# Altium footprint library custom-case.PcbLib: 8 footprints
Each footprint in its own frame and in the unit in brackets; x right, y up, seen from the top. Pads: shape width x height; smd on the part's side, far side on the other; paste and mask are expansions set on the pad; w line width, h text height; cw(c..) or ccw(c..) is an arc to the next point about the centre after c.
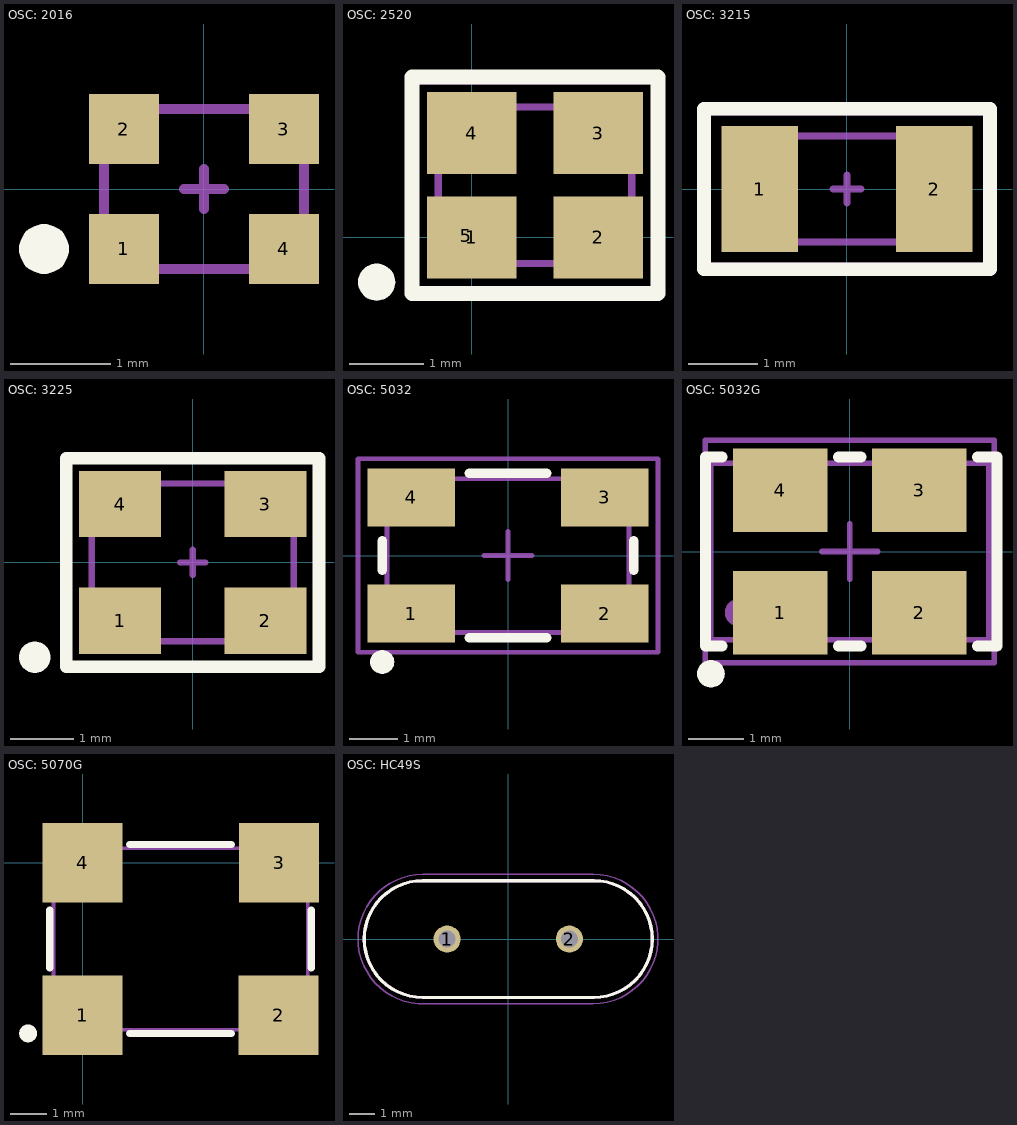
[diagram p0: the footprints below, top view; thin cyan lines are the x and y axes]

## OSC: 2016 [mm]
pads (5):
  rect 0.7x0.7 smd: 1(-0.8,-0.6) 2(-0.8,0.6) 3(0.8,0.6) 4(0.8,-0.6)
  round 0.5 on Top Overlay: ""(-1.6,-0.6)
Top Assy:
  lines w0.1: -1,-0.8 -1,0.8 1,0.8 1,-0.8 -1,-0.8
Size Area:
  lines w0.1: -0.2,0 0.2,0 ; 0,-0.2 0,0.2 ; -1,-0.8 -1,0.8 1,0.8 1,-0.8 -1,-0.8
3D body "User Library-XRCGB27M000F2P00R0.STEP": height 0.65, standoff 0, extent -1,-0.8 1,0.8

## OSC: 2520 [mm]
pads (6):
  rect 1.2x1.1 smd: 1(0,0) 2(1.7,0) 3(1.7,1.4) 4(0,1.4)
  round 0.5 on Mech1: 5(-0.075,0.025)
  round 0.5 on Top Overlay: ""(-1.275,-0.6)
Top Overlay:
  lines w0.2: -0.8,-0.75 -0.8,2.15 2.5,2.15 2.5,-0.75 -0.8,-0.75
Top Assy:
  lines w0.1: -0.45,-0.35 2.15,-0.35 2.15,1.75 -0.45,1.75 -0.45,-0.35
Size Area:
  lines w0.1: -0.8,-0.7 2.5,-0.7 2.5,2.1 -0.8,2.1 -0.8,-0.7
3D body "User Library-Crystal NDK NX2520SA series.STEP": height 0.55, standoff 0, extent -0.45,-0.35 2.15,1.75

## OSC: 3215 [mm]
pads (2):
  rect 1.1x1.8 smd: 1(-1.25,0) 2(1.25,0)
Top Overlay:
  lines w0.2: -2.05,-1.15 2.05,-1.15 2.05,1.15 -2.05,1.15 -2.05,-1.15
Top Assy:
  lines w0.1: -1.61,-0.76 -1.61,0.76 1.61,0.76 1.61,-0.76 -1.61,-0.76
Size Area:
  lines w0.1: -0.2,0 0.2,0 ; 0,-0.2 0,0.2 ; -2.05,-1.1 2.05,-1.1 2.05,1.1 -2.05,1.1 -2.05,-1.1
3D body "User Library-ABS07.STEP": height 0.91, standoff 0, extent -1.61,-0.76 1.61,0.76

## OSC: 3225 [mm]
height 0.55
pads (5):
  rect 1.3x1.05 smd: 1(-1.15,-0.925) 2(1.15,-0.925) 3(1.15,0.925) 4(-1.15,0.925)
  round 0.5 on Top Overlay: ""(-2.5,-1.5)
Top Overlay:
  lines w0.2: -2,-1.65 2,-1.65 2,1.65 -2,1.65 -2,-1.65
Top Assy:
  lines w0.1: -1.6,-1.25 -1.6,1.25 1.6,1.25 1.6,-1.25 -1.6,-1.25
Size Area:
  lines w0.1: -0.2,0 0.2,0 ; 0,-0.2 0,0.2 ; -2,-1.7 -2,1.7 2,1.7 2,1.6 2,-1.7 -2,-1.7
3D body "User Library-User Library-Siward_SX3225.step": height 0.81, standoff 0, extent -1.6,-1.25 1.6,1.25

## OSC: 5032 [mm]
pads (6):
  rect 1.8x1.2 smd: 1(-2,-1.2) 2(2,-1.2) 3(2,1.2) 4(-2,1.2)
  round 0.5 on Top Overlay: ""(-2.6,-2.2)
  round 0.5 on Mech1: ""(-2,-1.1)
Top Overlay:
  lines w0.2: -2.6,-0.3 -2.6,0.3 ; -0.8,-1.7 0.8,-1.7 ; -0.8,1.7 0.8,1.7 ; 2.6,-0.3 2.6,0.3
Top Assy:
  lines w0.1: -2.5,-1.587 -2.5,1.587 2.5,1.587 2.5,-1.587 -2.5,-1.587
Size Area:
  lines w0.1: -0.5,0 0.5,0 ; 0,-0.5 0,0.5 ; -3.1,-2 -3.1,2 3.1,2 3.1,-2 -3.1,-2
3D body "ABM3B.STEP": height 1.1, standoff -0.01, extent -2.5,-1.587 2.5,1.587

## OSC: 5032G [mm]
pads (6):
  rect 1.7x1.5 smd: 1(-1.25,-1.1) 2(1.25,-1.1) 3(1.25,1.1) 4(-1.25,1.1)
  round 0.5 on Top Overlay: ""(-2.5,-2.2)
  round 0.5 on Mech1: ""(-2,-1.1)
Top Overlay:
  lines w0.2: -2.3,-1.7 -2.6,-1.7 -2.6,1.7 -2.3,1.7 ; -0.2,-1.7 0.2,-1.7 ; -0.2,1.7 0.2,1.7 ; 2.3,-1.7 2.65,-1.7 2.65,1.7 2.3,1.7
Top Assy:
  lines w0.1: -2.5,-1.587 -2.5,1.587 2.5,1.587 2.5,-1.587 -2.5,-1.587
Size Area:
  lines w0.1: -0.5,0 0.5,0 ; 0,-0.5 0,0.5 ; -2.6,-2 -2.6,2 2.6,2 2.6,-2 -2.6,-2
3D body "User Library-ASFL1.STEP": height 1.38, standoff 0.06, extent -2.473,-1.6 2.527,1.6

## OSC: 5070G [mm]
pads (5):
  rect 2.2x2.2 smd: 1(0,-4.2) 2(5.4,-4.2) 3(5.41,0) 4(0,0)
  round 0.5 on Top Overlay: ""(-1.5,-4.7)
Top Overlay:
  lines w0.2: -0.9,-2.9 -0.9,-1.3 ; 1.3,-4.7 4.1,-4.7 ; 1.3,0.5 4.1,0.5 ; 6.3,-2.9 6.3,-1.3
Top Assy:
  lines w0.1: -0.8,-4.6 6.2,-4.6 6.2,0.4 -0.8,0.4 -0.8,-4.6
3D body "User Library-50 MHz.STEP": height 1.51, standoff -0.01, extent -0.8,-4.6 6.2,0.4

## OSC: HC49S [mm] "HC49S, Кварцевый резонатор , монтаж THT"
pads (2):
  round 1.08 hole 0.68: 1(-2.44,0) 2(2.44,0)
Top Overlay:
  lines w0.127: -5.75,0 ccw(c-3.42,0) -3.42,-2.33 3.42,-2.33 ccw(c3.42,0) 5.75,0 ccw(c3.42,0) 3.42,2.33 -3.42,2.33 ccw(c-3.42,0) -5.75,0
3D model:
  lines w0.127: -5.75,0 ccw(c-3.42,0) -3.42,-2.33 3.42,-2.33 ccw(c3.42,0) 5.75,0 ccw(c3.42,0) 3.42,2.33 -3.42,2.33 ccw(c-3.42,0) -5.75,0
Size Area:
  lines w0.05: -6,-0.005 cw(c-3.415,-0.005) -3.415,2.58 ; -6,0.005 ccw(c-3.413,0.005) -3.322,-2.581 ; -3.41,2.58 3.4,2.58 cw(c3.4,0) 3.4,-2.58 -3.3,-2.58
3D body "HC-49_U-S16000000ABJB.STEP": height 3.5, standoff -2.1, extent -5.785,-2.286 5.715,2.374